# Altium schematic symbol library TransformersG.SchLib: 1 symbol
Pins are listed as number, name and electrical type; pins without a type are passive.

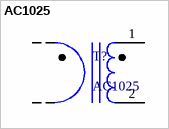
[diagram p0: symbol AC1025]

## AC1025
designator T?
Current transformer
pins: 1, 2